# EAGLE library part BQ2054SN (library texas)
CHARGE MANAGEMENT IC
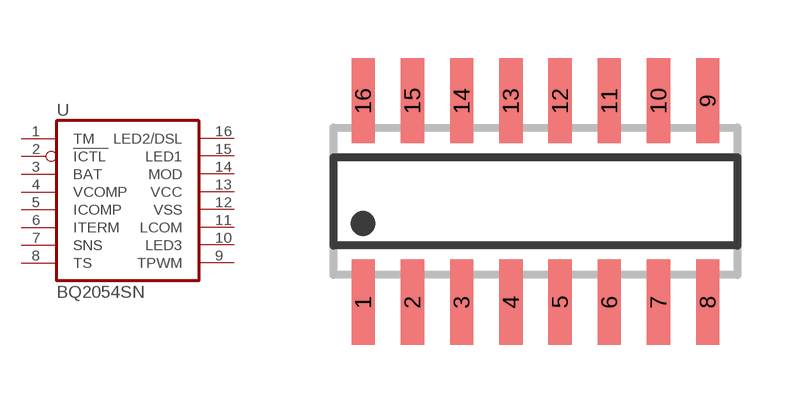
[diagram p1: symbol with the pads of SO16; footprint SO16]

Designator prefix U

## BQ2054SN  [SO16]
1  TM  in
2  ICTL  out
3  BAT  in
4  VCOMP  in
5  ICOMP  in
6  ITERM  in
7  SNS  in
8  TS  in
9  TPWM  in
10  LED3  hiz
11  LCOM  out
12  VSS  pwr
13  VCC  pwr
14  MOD  out
15  LED1  hiz
16  LED2/DSL  hiz

## Footprint SO16 (pad centres in mm)
SMALL OUTLINE INTEGRATED CIRCUIT body 3.9 mm/JEDEC MS-012AC
smd 0.6 x 2.2: 1 -4.445,-2.6; 2 -3.175,-2.6; 3 -1.905,-2.6; 4 -0.635,-2.6; 5 0.635,-2.6; 6 1.905,-2.6; 7 3.175,-2.6; 8 4.445,-2.6; 9 4.445,2.6; 10 3.175,2.6; 11 1.905,2.6; 12 0.635,2.6; 13 -0.635,2.6; 14 -1.905,2.6; 15 -3.175,2.6; 16 -4.445,2.6